# Altium schematic symbol library ESP32-C3-MINI-1-H4X.SchLib: 1 symbol
Pins are listed as number, name and electrical type; pins without a type are passive.

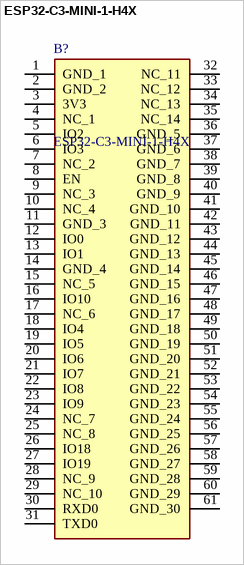
[diagram p0: symbol ESP32-C3-MINI-1-H4X]

## ESP32-C3-MINI-1-H4X
designator B?
Bluetooth, WiFi 802.11b/g/n, Bluetooth v5.0 Transceiver Module 2.412GHz ~ 2.484GHz PCB Trace Surface Mount; Manufacturer_Name: Espressif Systems; Geometry.Height: 2.55mm; Mouser Part Number: 356-ESP32C3MINI1H4X; Mouser Price/Stock: https://www.mouser.co.uk/ProductDetail/Espressif-Systems/ESP32-C3-MINI-1-H4X?qs=olJun0bQHM%252Bm8wbucOd%2FlA%3D%3D; Manufacturer_Part_Number: ESP32-C3-MINI-1-H4X; Datasheet Link: *
footprint ESP32C3MINI1H4X
pins: 1 GND_1, 2 GND_2, 3 3V3, 4 NC_1, 5 IO2, 6 IO3, 7 NC_2, 8 EN, 9 NC_3, 10 NC_4, 11 GND_3, 12 IO0, 13 IO1, 14 GND_4, 15 NC_5, 16 IO10, 17 NC_6, 18 IO4, 19 IO5, 20 IO6, 21 IO7, 22 IO8, 23 IO9, 24 NC_7, 25 NC_8, 26 IO18, 27 IO19, 28 NC_9, 29 NC_10, 30 RXD0, 31 TXD0, 32 NC_11, 33 NC_12, 34 NC_13, 35 NC_14, 36 GND_5, 37 GND_6, 38 GND_7, 39 GND_8, 40 GND_9, 41 GND_10, 42 GND_11, 43 GND_12, 44 GND_13, 45 GND_14, 46 GND_15, 47 GND_16, 48 GND_17, 49 GND_18, 50 GND_19, 51 GND_20, 52 GND_21, 53 GND_22, 54 GND_23, 55 GND_24, 56 GND_25, 57 GND_26, 58 GND_27, 59 GND_28, 60 GND_29, 61 GND_30